# Altium footprint library fpr.PcbLib: 42 footprints (part 1 of 3)
Each footprint in its own frame and in the unit in brackets; x right, y up, seen from the top. Pads: shape width x height; smd on the part's side, far side on the other; paste and mask are expansions set on the pad; w line width, h text height; cw(c..) or ccw(c..) is an arc to the next point about the centre after c.
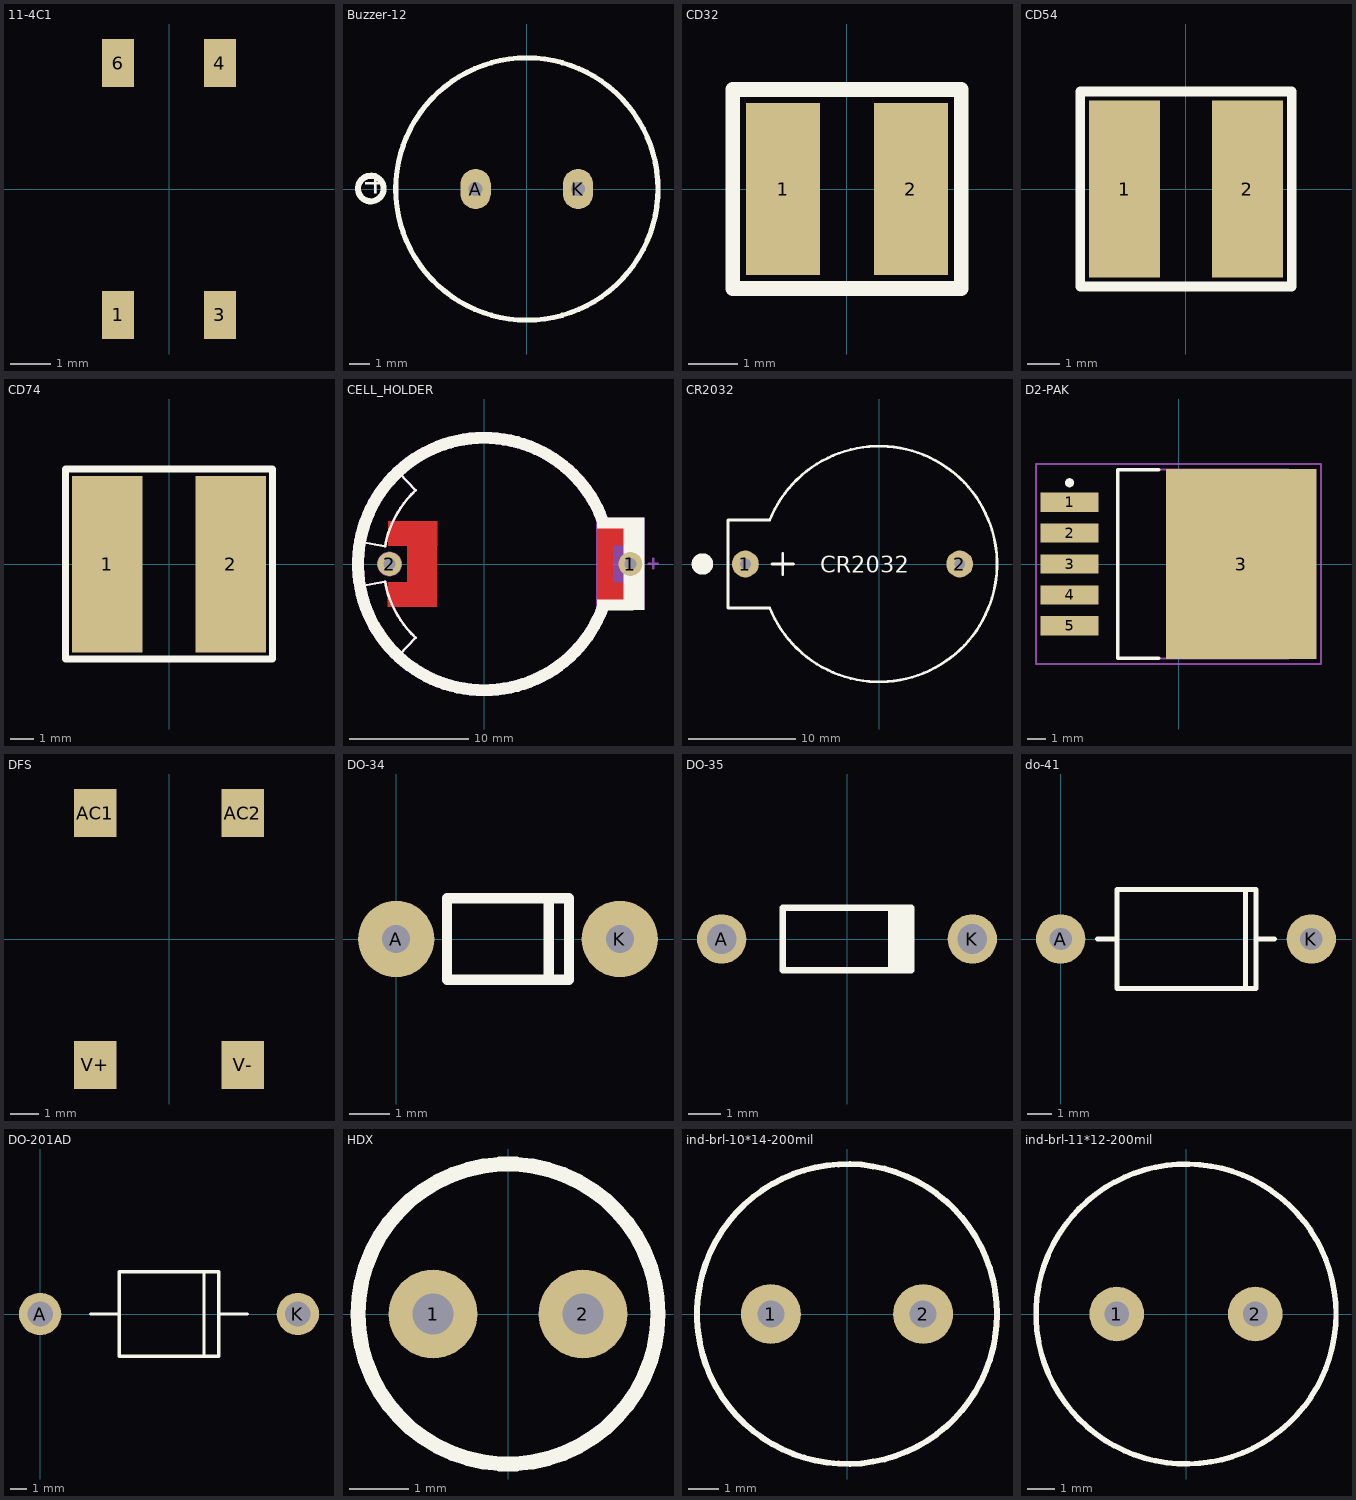
[diagram p0: the footprints below, top view; thin cyan lines are the x and y axes]

## 11-4C1 [mm] "Toshiba TLP181GB SMD Footprint"
height 2.5
pads (4):
  rect 0.8x1.2 smd: 1(-1.27,-3.15) 3(1.27,-3.15) 4(1.27,3.15) 6(-1.27,3.15)
3D body "TLP181.STEP": height 2.6, standoff 0, extent -1.8,-3.4 1.8,3.6

## Buzzer-12 [mm] "12mm Piezo Buzzer"
height 8.5
pads (2):
  oval 1.5x2 hole 0.7: A(-2.54,0) K(2.54,0)
Top Overlay:
  circle w0.254: c0,0 r6.5
  circle w0.305: c-7.735,0.022 r0.635
  text "+" at -8.191,-0.638 h2.03
3D body "buzzer.STEP": height 8.15, standoff -4, extent -6,-6 6,6

## CD32 [mm]
pads (2):
  rect 1.5x3.5 smd: 1(-1.3,0) 2(1.3,0)
Top Overlay:
  lines w0.3: -2.325,-2.025 2.325,-2.025 2.325,2.025 -2.325,2.025 -2.325,-2.025
3D body "User Library-CD32 inductor.STEP": height -0.5, standoff -2.6, extent -1.651,-1.5 1.651,1.5

## CD54 [mm]
pads (2):
  rect 2.2x5.5 smd: 1(-1.9,0) 2(1.9,0)
Top Overlay:
  lines w0.3: -3.275,-3.025 -3.275,3.025 3.275,3.025 3.275,-3.025 -3.275,-3.025
3D body "User Library-SDR0604.STEP": height 4.55, standoff 0, extent -2.729,-2.75 2.779,2.85

## CD74 [mm]
pads (2):
  rect 3x7.5 smd: 1(-2.625,0) 2(2.625,0)
Top Overlay:
  lines w0.3: -4.4,-4.025 -4.4,4.05 4.4,4.05 4.4,-4.025 -4.4,-4.025
3D body "User Library-CDRH74NP-220MC.STEP": height 4.5, standoff 0, extent -3.65,-3.65 3.65,3.65

## CELL_HOLDER [mm] "Lithium Battery Holder for CR2032 3V Cell"
height 6.5
pads (2):
  round 2 hole 1: 1(12.275,0)
  round 2 hole 1 mask+0: 2(-7.95,0)
Top Layer:
  rectangle: -6.475,-3.6 -3.95,3.6
  region: -3.94,1.527 -3.94,3.602 -8.09,3.602 -8.09,1.527
  region: -8.109,-1.527 -8.109,-3.602 -3.959,-3.602 -3.959,-1.527
  region: 12.298,1.534 12.298,3.609 9.573,3.609 9.573,1.534
  region: 9.577,-1.534 9.577,-3.609 12.302,-3.609 12.302,-1.534
  region: 10.802,3.591 9.577,3.591 9.577,-3.609 10.802,-3.609
Top Overlay:
  rectangle: 11.716,-3.877 13.466,3.898
  region: 9.466,3.873 9.466,2.998 12.591,2.998 12.591,3.873
  region: 12.591,-3.877 12.591,-3.002 9.466,-3.002 9.466,-3.877
  lines w0.2: -10.325,-1.85 -8.35,-1.5 ; -10.325,1.85 -8.35,1.5 ; -8.325,-1.496 ccw(c0,0) -5.759,-6.195 -7.1,-7.625 ; -8.325,1.496 cw(c0,0) -5.759,6.195 -7.1,7.625 ; 10.4,-3.8 12.5,-3.8 ; 10.425,3.8 12.5,3.8
  lines w1: 9.948,3.661 ccw(c0,0) 9.959,-3.63
Mechanical 7:
  circle w0.4: c-7.95,0 r0.848
  rectangle: 9.398,-3.875 13.475,3.9
  lines w0.2: -10.325,-1.85 -8.35,-1.5 ; -10.325,1.85 -8.35,1.5 ; -8.325,-1.496 ccw(c0,0) -5.759,-6.195 -7.1,-7.625 ; -8.325,1.496 cw(c0,0) -5.759,6.195 -7.1,7.625 ; 13.796,0.026 14.396,0.026 14.596,0.026 ; 14.196,-0.374 14.196,0.426
  lines w1: 9.948,3.661 ccw(c0,0) 9.959,-3.63
3D body: height 0.8, standoff 0.1, extent -8.429,-1.202 -0.041,0.999
3D body: height 0.2, standoff -2.3, extent -8.357,-0.418 -7.518,0.395
3D body: height 0.2, standoff -2.3, extent 11.887,-0.381 12.624,0.381
3D body: height 0.18, standoff 0, extent 10.984,-0.459 12.876,0.49
3D body: height 0.5, standoff 0, extent -10.565,-0.628 10.654,10.59
3D body: height 9, standoff 1, extent 9.725,-3.062 11.187,3.239
3D body: height 10, standoff 0, extent 12.652,-3.687 13.171,3.441
3D body: height 9.9, standoff 0, extent 9.646,-3.974 13.165,3.915
3D body: height 6, standoff 0, extent -10.617,-10.589 10.582,10.629
3D body: height 0.5, standoff 0, extent -10.561,-10.522 10.658,0.696

## CR2032 [mm] "Battery holder"
pads (2):
  round 2.5 hole 1: 1(-12.483,0) 2(7.517,0)
Top Overlay:
  circle w1: c-16.5,0 r0.5
  lines w0.254: -11.278,4.1 ccw(c-11.278,4.101) -11.278,4.101 ; -10.206,-4.103 ccw(c0,0) -10.206,4.103 ; -10.2,-4.1 -14.1,-4.1 -14.1,4.1 -10.2,4.1 ; -10,0 -8,0 ; -9,-1 -9,1
  text "CR2032" at -5.5,-0.8 h1.52
3D body "User Library-CR2032_HOR_HOLD.step": height 8.6, standoff -3.9, extent -13.5,-11 11,11
3D body "CircuitWorks-BATT CR2032.step": height 5, standoff 1.8, extent -10,-10 10,10

## D2-PAK [mm] "D2-PAK, 6-Leads, Body 8.6x10.2mm, Pitch 1.7mm, Lead Span 14.1mm, IPC Medium Density"
height 4.65
pads (6):
  rect 3.2x1.05 smd: 1(-6,3.4) 2(-6,1.7) 3(-6,0) 4(-6,-1.7) 5(-6,-3.4)
  rect 8.3x10.45 smd: 3(3.45,0)
Top Overlay:
  circle w0.25: c-6,4.475 r0.125
  lines w0.2: -1.1,-5.2 -3.35,-5.2 -3.35,5.2 -1.1,5.2
Mechanical 13:
  lines w0.1: -3.35,-5.2 -3.35,5.2 6.05,5.2 6.05,-5.2 -3.35,-5.2
Mechanical 15:
  lines w0.1: -0.5,0 0.5,0 ; 0,-0.5 0,0.5 ; -7.85,-5.5 -7.85,5.5 7.85,5.5 7.85,-5.5 -7.85,-5.5
3D body "SW3dPS-TO263-5.STEP": height 4.78, standoff -0.02, extent -7.53,-5 8.14,5

## DFS [mm]
pads (4):
  rect 1.5x1.7 smd: AC1(-2.6,4.45) AC2(2.6,4.45) V+(-2.6,-4.45) V-(2.6,-4.45)
3D body "SDIP4.step": height 2.6, standoff 0, extent -4.3,-5 4.2,5.033

## DO-34 [mm]
pads (2):
  round 1.905 hole 0.7: A(0,0) K(5.588,0)
Top Overlay:
  lines w0.254: 3.81,-1.016 3.81,1.016 ; 1.27,-1.016 1.27,1.016 4.318,1.016 4.318,-1.016 1.27,-1.016

## DO-35 [mm] "Diode, Axial; Body 3.8 x 1.9 mm (LxDia. max), Lead Dia. 0.53 mm (max)"
height 1.9
pads (2):
  round 1.5 hole 0.9: A(-3.81,0) K(3.81,0)
Top Overlay:
  rectangle: 1.25,-0.95 2.05,0.95
  lines w0.2: 1.95,-0.95 -1.95,-0.95 -1.95,0.95 1.95,0.95
3D body "User Library-DO-35.step": height 2.46, standoff -1.95, extent -4.015,-0.985 4.165,0.935

## do-41 [mm]
pads (2):
  round 2 hole 0.9: A(0,0) K(10.16,0)
Top Overlay:
  lines w0.2: 1.5,0 2.286,0 ; 7.912,0 8.66,0 ; 7.493,-2 7.912,-2 7.912,2 7.493,2 ; 7.493,-2 7.493,2 ; 7.493,-2 2.286,-2 2.286,2 3.925,2 7.493,2
3D body "User Library-DO-41-2.STEP": height 3.22, standoff -2.1, extent -0.432,-1.36 10.592,1.36

## DO-201AD [mm]
pads (2):
  round 2.5 hole 1.5: A(0,0) K(15.24,0)
Top Overlay:
  lines w0.2: 3,0 4.675,0 ; 9.686,-2.5 9.686,2.5 ; 10.565,0 12.24,0 ; 4.675,0 4.675,-2.5 10.565,-2.5 10.565,2.5 4.675,2.5 4.675,0
3D body "User Library-DO-201AD.STEP": height 7.6, standoff -4, extent -0.66,-2.8 15.9,2.8

## HDX [mm]
height 12
pads (2):
  round 1.5 hole 0.7: 1(-1.27,0) 2(1.27,0)
Top Overlay:
  circle w0.254: c0,0 r2.54
3D body "HDX.STEP": height 12, standoff -2.5, extent -2.6,-2.6 2.6,2.6

## ind-brl-10*14-200mil [mm] "Barrel Inductor - Dimenssion 10*14 (D,H) - 200mil Pitch"
height 14
pads (2):
  round 2 hole 0.9: 1(-2.54,0) 2(2.54,0)
Top Overlay:
  circle w0.2: c0,0 r5
3D body "User Library-Inductor 10x12 (200 mils).STEP": height 12.63, standoff -3.37, extent -5.025,-5.009 4.975,4.99

## ind-brl-11*12-200mil [mm] "Barrel Inductor - Dimenssion 11*12 (D,H) - 200mil Pitch"
height 12
pads (2):
  round 2 hole 0.9: 1(-2.54,0) 2(2.54,0)
Top Overlay:
  circle w0.2: c0,0 r5.5
3D body "User Library-Inductor 10x12 (200 mils).STEP": height 12.13, standoff -3.87, extent -4.949,-4.959 5.051,5.041